# Altium schematic symbol library Connectors.SchLib: 36 symbols
Pins are listed as number, name and electrical type; pins without a type are passive.

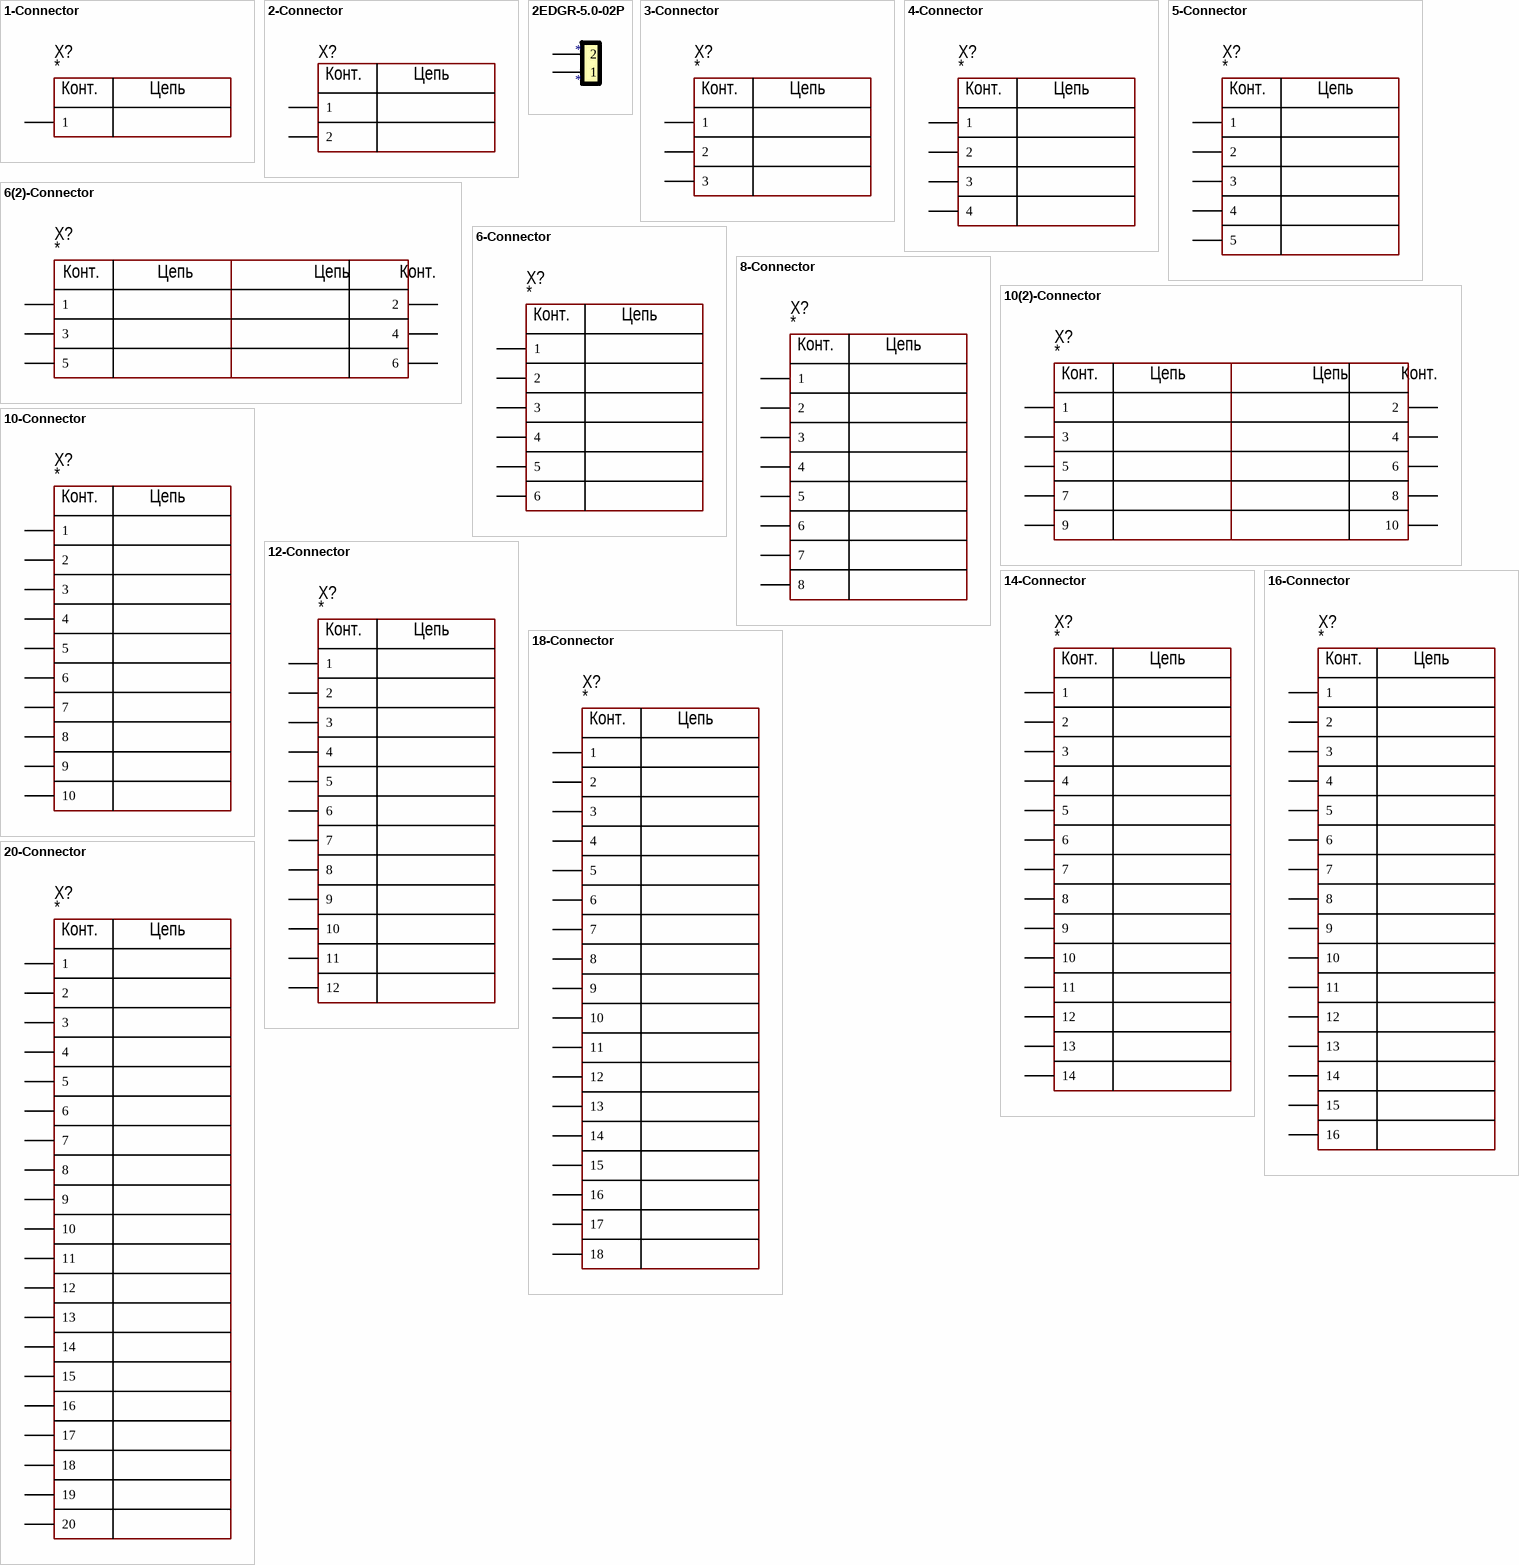
[diagram p0: symbols 1-Connector to 20-Connector]

## 1-Connector
designator X?
Model: *; Manufacturer: *; HelpURL: *; ComponentKind: *
footprint CON: 7461383
footprint CON: 8191
footprint CON: PADS 1x3mm
footprint CON: PADS 1x1mm
footprint CON: 3137-1
pins: 1
text: Конт.; Цепь

## 2-Connector
designator X?
Model: *; Manufacturer: *; HelpURL: *; ComponentKind: *
footprint CON: 300-02P-5.0 (2 pin 5.08mm screw connector)
footprint CON: 300-02P-5.08 (2 pin 5.08mm screw connector)
footprint CON: 0010321021
footprint CON: 0533750210 (MOLEX Mini-Lock)
footprint CON: 0533980271 (Pitch 1.25mm 2 pin Vertical SMT)
footprint CON: CWF-2
footprint CON: DG142V-5.08-02P
footprint CON: KF243-5.0-02
footprint CON: PBS-2 (PBS-2)
footprint CON: PLS-2
footprint CON: PWL-2
footprint CON: WF-02
footprint CON: X977B02
footprint CON: WJ06-02P
footprint CON: 163-179PH-EX
footprint CON: 0395430002 (5 mm) (2 pin 5.08mm screw connector)
footprint CON: 2EDGR-5.0-02P (Green connector)
footprint CON: SMD_2pin (3.81 2pin screw connector)
pins: 1, 2
text: Конт.; Цепь

## 2EDGR-5.0-02P
designator *
footprint 2EDGR-5.0-02P (Green connector)
pins: 1, 2

## 3-Connector
designator X?
Model: *; Manufacturer: *; HelpURL: *; ComponentKind: *
footprint CON: 10-32-1031
footprint CON: 300-03P-5.0 (3 pin 5.08mm screw connector)
footprint CON: 300-03P-5.08 (3 pin 5.08mm screw connector)
footprint CON: 340-021-14-03P-3.81 (3.81 3pin screw connector)
footprint CON: 0533980371 (Pitch 1.25mm 3 pin Vertical SMT)
footprint CON: CWF-3
footprint CON: DG142V-5.08-03P
footprint CON: KF243-5.0-03
footprint CON: PBS-3 (PBS-3)
footprint CON: PLS-3
footprint CON: PWL-3
footprint CON: WF-03
footprint CON: 0533750310
footprint CON: WJ06-03P
footprint CON: DG308-2.54-03P
pins: 1, 2, 3 (power)
text: Конт.; Цепь

## 4-Connector
designator X?
Model: *; Manufacturer: *; HelpURL: *; ComponentKind: *
footprint CON: 0010321041
footprint CON: 0533750410 (MOLEX Mini-Lock)
footprint CON: 0533980471
footprint CON: CWF-4
footprint CON: PBD-4 (PBD-4)
footprint CON: PBS-4 (PBS-5)
footprint CON: PLD-4
footprint CON: PLS-4 (PLS-40 4 pin header)
footprint CON: PWL-4
footprint CON: WF-04
footprint CON: X977B04
footprint CON: WJ06-04P
footprint CON: PLS-4(90) (PLS-40 4 pin header)
footprint CON: TJ4-4P4C (TJ4-4P4C)
footprint CON: TJ4-4P4CFlipped
pins: 1, 2, 3 (power), 4 (power)
text: Конт.; Цепь

## 5-Connector
designator X?
Model: *; Manufacturer: *; HelpURL: *; ComponentKind: *
footprint CON: 0533750510 (MOLEX Mini-Lock)
footprint CON: PBS-5 (PBS-5)
footprint CON: PLS-5
footprint CON: PWL-5
footprint CON: WJ06-05P
pins: 1, 2, 3 (power), 4 (power), 5 (power)
text: Конт.; Цепь

## 6(2)-Connector
designator X?
Model: *; Manufacturer: *; HelpURL: *; ComponentKind: *
footprint CON: IDC-6MS (IDC-6MS 6 pin PCB-mount connector)
footprint CON: PBD-6 (PBD-6)
footprint CON: PLD-6
footprint CON: PLD-6
pins: 1, 2, 3, 4, 5 (power), 6 (power)
text: Конт.; Цепь

## 6-Connector
designator X?
Model: *; Manufacturer: *; HelpURL: *; ComponentKind: *
footprint CON: 0533750610 (MOLEX Mini-Lock)
footprint CON: IDC-6MS (IDC-6MS 6 pin PCB-mount connector)
footprint CON: PBD-6 (PBD-6)
footprint CON: PBS-6 (PBS-6)
footprint CON: PLD-6
footprint CON: PLS-6
footprint CON: PLD-6
footprint CON: PWL-6
footprint CON: WF-06
footprint CON: WJ06-06P
footprint CON: RJ12-6P6C
footprint CON: RJ12-6P6CFlipped
pins: 1, 2, 3 (power), 4 (power), 5 (power), 6 (power)
text: Конт.; Цепь

## 8-Connector
designator X?
Model: *; Manufacturer: *; HelpURL: *; ComponentKind: *
footprint CON: 0533750810 (MOLEX Mini-Lock)
footprint CON: PBD-8 (PBD-8)
footprint CON: PBS-8 (PBS-8)
footprint CON: PLD-8 (PLD-40 8 pin header)
footprint CON: PLS-8 (PLS-40 8 pin header)
footprint CON: PWL-8
footprint CON: WF-08
footprint CON: PLLD-8
footprint CON: PLS-8(90) (PLS-40 8 pin header)
pins: 1, 2, 3 (power), 4 (power), 5 (power), 6 (power), 7 (power), 8 (power)
text: Конт.; Цепь

## 10(2)-Connector
designator X?
Model: *; Manufacturer: *; HelpURL: *; ComponentKind: *
footprint CON: BH-10 (Connector; Header; 10 Position)
footprint CON: IDC-10MS (IDC-10MS 10 pin PCB-mount header)
footprint CON: PBD-10
footprint CON: PLD-10
footprint CON: S10B-PHD
pins: 1, 2, 3, 4, 5 (power), 6 (power), 7 (power), 8 (power), 9 (power), 10 (power)
text: Конт.; Цепь

## 10-Connector
designator X?
Model: *; Manufacturer: *; HelpURL: *; ComponentKind: *
footprint CON: 0533751010 (MOLEX Mini-Lock)
footprint CON: BH-10 (Connector; Header; 10 Position)
footprint CON: IDC-10MS (IDC-10MS 10 pin PCB-mount header)
footprint CON: PBD-10
footprint CON: PBS-10 (PBS-10)
footprint CON: PBS-10_zero (PBS-10)
footprint CON: PLD-10
footprint CON: PLS-10 (PLS-40 10 pin header)
footprint CON: S10B-PHD
pins: 1, 2, 3 (power), 4 (power), 5 (power), 6 (power), 7 (power), 8 (power), 9 (power), 10 (power)
text: Конт.; Цепь

## 12-Connector
designator X?
Model: *; Manufacturer: *; HelpURL: *; ComponentKind: *
footprint CON: 0533751210 (MOLEX Mini-Lock)
footprint CON: PBD-12 (PBD-12)
footprint CON: PLD-12
footprint CON: PLS-12 (PLS-40 12 pin header)
footprint CON: S12B-PHD
footprint CON: 0346910120
pins: 1, 2, 3 (power), 4 (power), 5 (power), 6 (power), 7 (power), 8 (power), 9 (power), 10 (power), 11 (power), 12 (power)
text: Конт.; Цепь

## 14-Connector
designator X?
Model: *; Manufacturer: *; HelpURL: *; ComponentKind: *
footprint CON: IDC-14MS (IDC-14MS connector)
footprint CON: PBD-14 (PBD-14)
footprint CON: PLD-14
footprint CON: PLS-14
footprint CON: KF128
pins: 1, 2, 3 (power), 4 (power), 5 (power), 6 (power), 7 (power), 8 (power), 9 (power), 10 (power), 11 (power), 12 (power), 13 (power), 14 (power)
text: Конт.; Цепь

## 16-Connector
designator X?
Model: *; Manufacturer: *; HelpURL: *; ComponentKind: *
footprint CON: IDC-16MS (IDC-16MS straight leads pcb mount)
footprint CON: PBD-16 (PBD-16)
footprint CON: PLD-16
footprint CON: PLS-16
footprint CON: WF-16
pins: 1, 2, 3 (power), 4 (power), 5 (power), 6 (power), 7 (power), 8 (power), 9 (power), 10 (power), 11 (power), 12 (power), 13 (power), 14 (power), 15 (power), 16 (power)
text: Конт.; Цепь

## 18-Connector
designator X?
Model: *; Manufacturer: *; HelpURL: *; ComponentKind: *
footprint CON: IDC-18MS
footprint CON: PBD-18 (PBD-18)
footprint CON: PLD-18
pins: 1, 2, 3 (power), 4 (power), 5 (power), 6 (power), 7 (power), 8 (power), 9 (power), 10 (power), 11 (power), 12 (power), 13 (power), 14 (power), 15 (power), 16 (power), 17 (power), 18 (power)
text: Конт.; Цепь

## 20-Connector
designator X?
Model: *; Manufacturer: *; HelpURL: *; ComponentKind: *
footprint CON: IDC-20MS
footprint CON: PBD-20
footprint CON: PBD-20R (PBD-20R)
footprint CON: PBS-20
footprint CON: PLD-20
footprint CON: PLS-20
footprint CON: WF-20
pins: 1, 2, 3 (power), 4 (power), 5 (power), 6 (power), 7 (power), 8 (power), 9 (power), 10 (power), 11 (power), 12 (power), 13 (power), 14 (power), 15 (power), 16 (power), 17 (power), 18 (power), 19 (power), 20 (power)
text: Конт.; Цепь

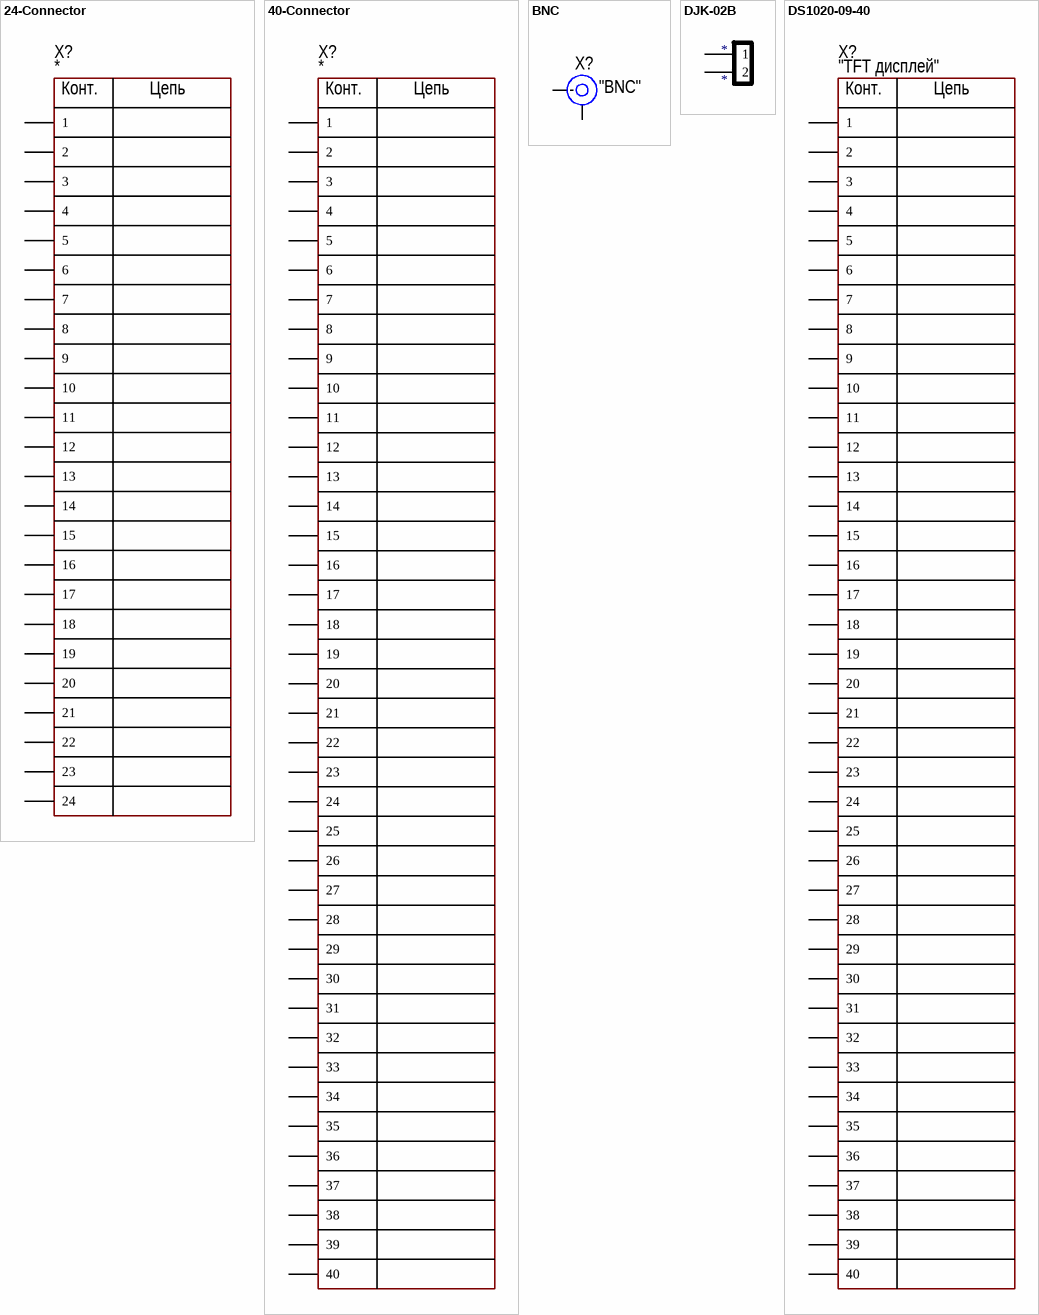
[diagram p1: symbols 24-Connector to DS1020-09-40]

## 24-Connector
designator X?
Model: *; Manufacturer: *; HelpURL: *; ComponentKind: *
footprint CON: PLS-24
pins: 1, 2, 3 (power), 4 (power), 5 (power), 6 (power), 7 (power), 8 (power), 9 (power), 10 (power), 11 (power), 12 (power), 13 (power), 14 (power), 15 (power), 16 (power), 17 (power), 18 (power), 19 (power), 20 (power), 21 (power), 22 (power), 23 (power), 24 (power)
text: Конт.; Цепь

## 40-Connector
designator X?
Model: *; Manufacturer: *; HelpURL: *; ComponentKind: *
footprint CON: IDC-40MS
footprint CON: PBD-40
pins: 1, 2, 3, 4, 5, 6, 7, 8, 9, 10, 11, 12, 13, 14, 15, 16, 17, 18, 19, 20, 21, 22, 23, 24, 25, 26, 27, 28, 29, 30, 31, 32, 33, 34, 35, 36, 37, 38, 39, 40
text: Конт.; Цепь

## BNC
designator X?, comment "BNC"
RF; Manufacturer: TE Connectivity AMP Connectors; Model: 1-1337445-0; HelpURL: https://www.digikey.com/products/en?keywords=1-1337445-0; ComponentKind: BNC
footprint CON: BNC
pins: 1 IN, 2 IN

## DJK-02B
designator *
footprint DJK-02B
pins: 1, 2

## DS1020-09-40
designator X?, comment "TFT дисплей"
FPC; Manufacturer: Connfly; Model: DS1020-09-40; HelpURL: http://www.eltech.spb.ru/item/ds1020_09_40_vbt1a; ComponentKind: *
footprint CON: DS1020-09-40
pins: 1, 2, 3, 4, 5, 6, 7, 8, 9, 10, 11, 12, 13, 14, 15, 16, 17, 18, 19, 20, 21, 22, 23, 24, 25, 26, 27, 28, 29, 30, 31, 32, 33, 34, 35, 36, 37, 38, 39, 40
text: Конт.; Цепь

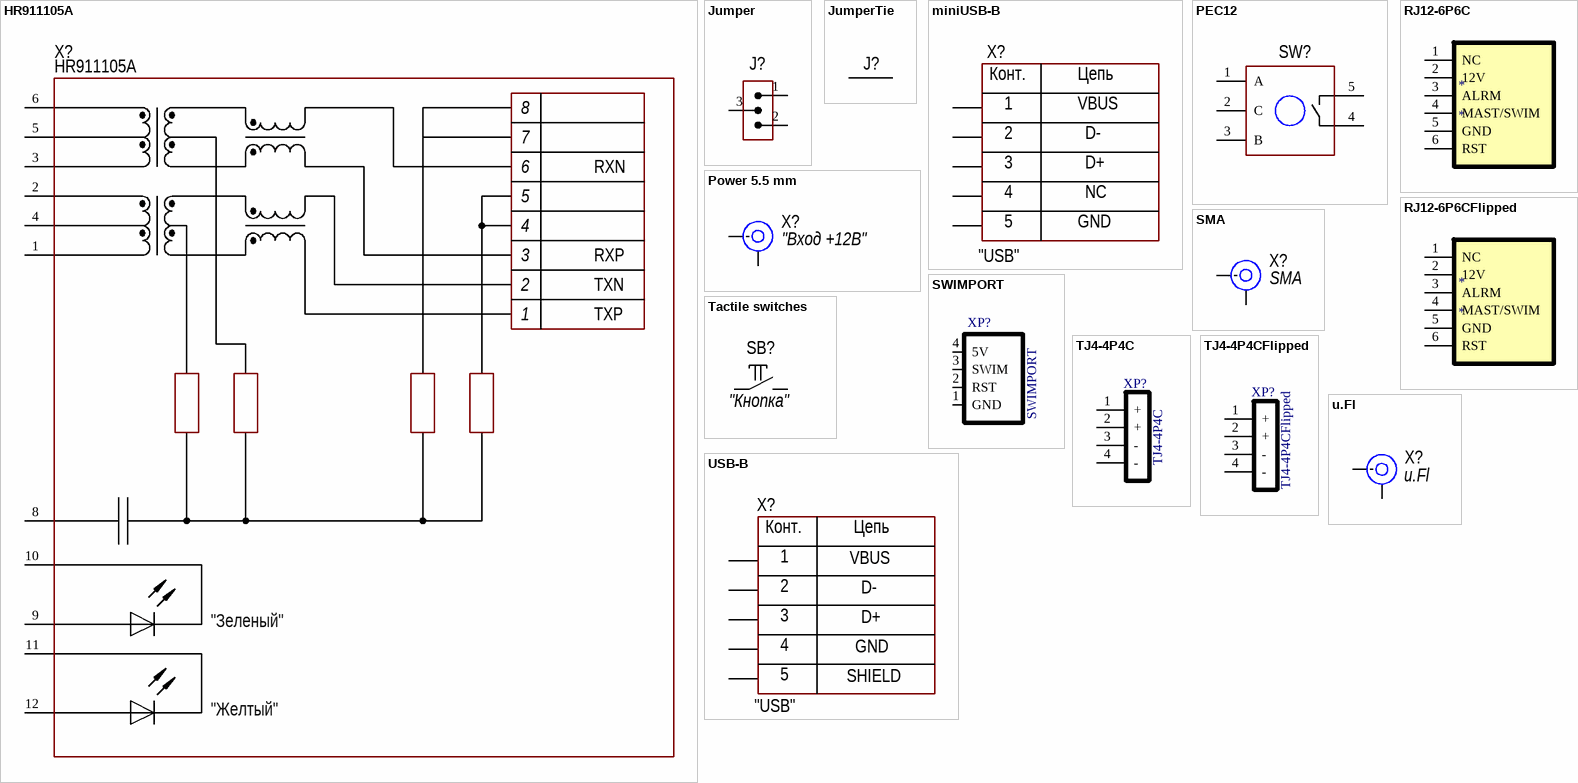
[diagram p2: symbols HR911105A to USB-B]

## HR911105A
designator X?
Ethernet RJ-45; Manufacturer: Hanrun Electronics Co., Ltd.; Model: HR911105A; HelpURL: *; ComponentKind: *
footprint CON: HR911105A
pins: 1 TD+, 2 TD-, 3 RD+, 4 CT, 5 CT, 6 RD-, 8 GND, 9 D2, 10 D1, 11 D3, 12 D4
text: 7; RXN; RXP; TXN; TXP; "Зеленый"; "Желтый"

## Jumper
designator J?
Jumper
footprint CON: JUMPER
footprint CON: PLS-3
pins: 1 IN, 2 IN, 3 IN

## JumperTie
designator J?  (net tie, no BOM)
JumperTie
footprint CON: Jumper NetTie
pins: 1 IN, 2 IN

## miniUSB-B
designator X?, comment "USB"
USB; Manufacturer: *; Model: *; HelpURL: *; ComponentKind: *
footprint CON: 0675031020
pins: 1, 2, 3, 4, 5
text: Конт.; Цепь; VBUS; D-; D+; NC; GND

## PEC12
designator SW?
Encoder; Model: *; Manufacturer: *; HelpURL: *; ComponentKind: *
footprint ENC: PEC-12
pins: 1 A, 2 C, 3 B, 4, 5

## Power 5.5 mm
designator X?, comment "Вход +12В"
Power; Manufacturer: CUI Inc.; Model: PJ-102AH; HelpURL: https://www.digikey.com/products/en?keywords=cp-102AH-ND; ComponentKind: 24VDC
footprint CON: PJ-102AH
footprint CON: 163-179PH-EX
pins: 1 IN, 2 IN

## RJ12-6P6C
designator *
footprint RJ12-6P6C
pins: 1 NC, 2 12V, 3 ALRM, 4 MAST/SWIM, 5 GND, 6 RST

## RJ12-6P6CFlipped
designator *
footprint RJ12-6P6CFlipped
pins: 1 NC, 2 12V, 3 ALRM, 4 MAST/SWIM, 5 GND, 6 RST

## SMA
designator X?
RF; Model: *; Manufacturer: *; HelpURL: *; ComponentKind: *
footprint CON: SMA
footprint CON: SMA-R
pins: 1 IN, 2 IN

## SWIMPORT
designator XP?
footprint CON: PLS-4 (PLS-40 4 pin header)
pins: 1 GND, 2 RST, 3 SWIM, 4 5V

## Tactile switches
designator SB?, comment "Кнопка"
6x6 mm; Manufacturer: *; Model: *; HelpURL: *; ComponentKind: *
footprint BUT: 6x6 (Leaded Tactile Button 6x6)
footprint BUT: 6x6 mm (R)
footprint BUT: 6x6 SMD (Leaded Tactile Button 6x6)
footprint BUT: SKQGADE010
pins: 1, 2

## TJ4-4P4C
designator XP?
footprint CON: TJ4-4P4C (TJ4-4P4C)
pins: 1 +, 2 +, 3 -, 4 -

## TJ4-4P4CFlipped
designator XP?
pins: 1 +, 2 +, 3 -, 4 -

## u.Fl
designator X?
RF; Manufacturer: Hirose Electric Co Ltd; Model: U.FL-R-SMT(01); HelpURL: *; ComponentKind: *
footprint CON: u.Fl
pins: 1 IN, 2 IN

## USB-B
designator X?, comment "USB"
USB; Manufacturer: Wurth Electronics Inc.; Model: 61400416121; HelpURL: https://www.digikey.com/product-detail/en/wurth-electronics-inc/61400416121/732-2108-ND/2060604; ComponentKind: type B
footprint CON: USB-B (USB-B connector on PCB)
pins: 1, 2, 3, 4, 5
text: Конт.; Цепь; VBUS; D-; D+; GND; SHIELD